# Altium footprint library sharp.PCBLIB: 5 footprints
Each footprint in its own frame and in the unit in brackets; x right, y up, seen from the top. Pads: shape width x height; smd on the part's side, far side on the other; paste and mask are expansions set on the pad; w line width, h text height; cw(c..) or ccw(c..) is an arc to the next point about the centre after c.
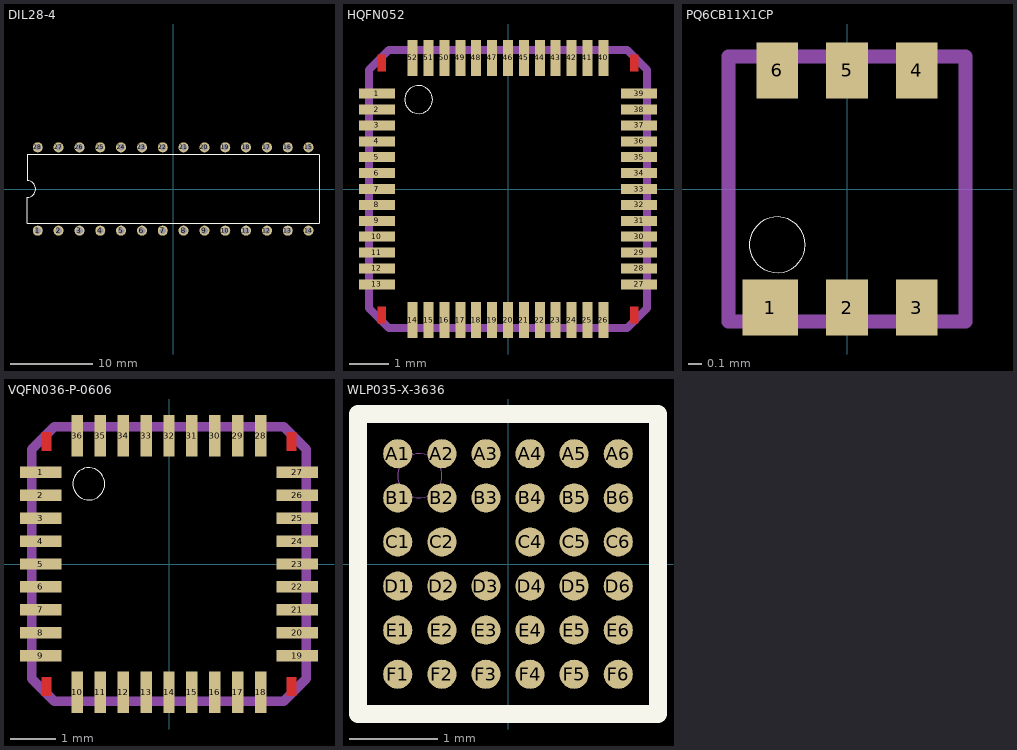
[diagram p0: the footprints below, top view; thin cyan lines are the x and y axes]

## DIL28-4 [mil]
pads (28):
  round 48 hole 32: 1(-650,-200) 2(-550,-200) 3(-450,-200) 4(-350,-200) 5(-250,-200) 6(-150,-200) 7(-50,-200) 8(50,-200) 9(150,-200) 10(250,-200) 11(350,-200) 12(450,-200) 13(550,-200) 14(650,-200) 15(650,200) 16(550,200) 17(450,200) 18(350,200) 19(250,200) 20(150,200) 21(50,200) 22(-50,200) 23(-150,200) 24(-250,200) 25(-350,200) 26(-450,200) 27(-550,200) 28(-650,200)
Top Overlay:
  lines w6: -700,-165 700,-165 700,165 -700,165 -700,40 cw(c-700,0) -700,-40 -700,-165

## HQFN052 [mil]
pads (52):
  rect 35.43x9.84 smd: 1(-129.92,94.49) 2(-129.92,78.74) 3(-129.92,62.99) 4(-129.92,47.24) 5(-129.92,31.5) 6(-129.92,15.75) 7(-129.92,0) 8(-129.92,-15.75) 9(-129.92,-31.5) 10(-129.92,-47.24) 11(-129.92,-62.99) 12(-129.92,-78.74) 13(-129.92,-94.49) 27(129.92,-94.49) 28(129.92,-78.74) 29(129.92,-62.99) 30(129.92,-47.24) 31(129.92,-31.5) 32(129.92,-15.75) 33(129.92,0) 34(129.92,15.75) 35(129.92,31.5) 36(129.92,47.24) 37(129.92,62.99) 38(129.92,78.74) 39(129.92,94.49)
  rect 9.84x35.43 smd: 14(-94.49,-129.92) 15(-78.74,-129.92) 16(-62.99,-129.92) 17(-47.24,-129.92) 18(-31.5,-129.92) 19(-15.75,-129.92) 20(0,-129.92) 21(15.75,-129.92) 22(31.5,-129.92) 23(47.24,-129.92) 24(62.99,-129.92) 25(78.74,-129.92) 26(94.49,-129.92) 40(94.49,129.92) 41(78.74,129.92) 42(62.99,129.92) 43(47.24,129.92) 44(31.5,129.92) 45(15.75,129.92) 46(0,129.92) 47(-15.75,129.92) 48(-31.5,129.92) 49(-47.24,129.92) 50(-62.99,129.92) 51(-78.74,129.92) 52(-94.49,129.92)
Top Layer:
  rectangle: -129.18,116.66 -120.82,133.35
  rectangle: -129.18,-133.34 -120.83,-116.65
  rectangle: 120.82,-133.35 129.17,-116.66
  rectangle: 120.83,116.65 129.18,133.34
Top Overlay:
  circle w0: c-88.58,88.58 r13.81
Top Paste:
  rectangle: -145.67,90.55 -114.17,98.43
  rectangle: -128.48,117.35 -121.52,132.66
  rectangle: -128.48,-132.65 -121.52,-117.34
  rectangle: 121.52,-132.66 128.48,-117.35
  rectangle: 121.52,117.34 128.48,132.65
  rectangle: -145.67,74.8 -114.17,82.68
  rectangle: -145.67,59.06 -114.17,66.93
  rectangle: -145.67,43.31 -114.17,51.18
  rectangle: -145.67,27.56 -114.17,35.43
  rectangle: -145.67,11.81 -114.17,19.69
  rectangle: -145.67,-3.94 -114.17,3.94
  rectangle: -145.67,-19.69 -114.17,-11.81
  rectangle: -145.67,-35.43 -114.17,-27.56
  rectangle: -145.67,-51.18 -114.17,-43.31
  rectangle: -145.67,-66.93 -114.17,-59.06
  rectangle: -145.67,-82.68 -114.17,-74.8
  rectangle: -145.67,-98.43 -114.17,-90.55
  region: -90.55,-145.67 -90.55,-114.17 -98.43,-114.17 -98.43,-145.67
  region: -74.8,-145.67 -74.8,-114.17 -82.68,-114.17 -82.68,-145.67
  region: -59.05,-145.67 -59.05,-114.17 -66.93,-114.17 -66.93,-145.67
  region: -43.3,-145.67 -43.3,-114.18 -51.19,-114.18 -51.19,-145.67
  region: -27.55,-145.67 -27.55,-114.18 -35.44,-114.18 -35.44,-145.67
  region: -11.81,-145.67 -11.81,-114.17 -19.69,-114.17 -19.69,-145.67
  region: 3.94,-145.67 3.94,-114.17 -3.94,-114.17 -3.94,-145.67
  region: 19.69,-145.67 19.69,-114.17 11.81,-114.17 11.81,-145.67
  region: 35.44,-145.67 35.44,-114.18 27.55,-114.18 27.55,-145.67
  region: 51.19,-145.67 51.19,-114.18 43.3,-114.18 43.3,-145.67
  region: 66.93,-145.67 66.93,-114.17 59.05,-114.17 59.05,-145.67
  region: 82.68,-145.67 82.68,-114.17 74.8,-114.17 74.8,-145.67
  region: 98.43,-145.67 98.43,-114.17 90.55,-114.17 90.55,-145.67
  region: 145.67,-90.55 114.17,-90.55 114.17,-98.43 145.67,-98.43
  region: 145.67,-74.8 114.17,-74.8 114.17,-82.68 145.67,-82.68
  region: 145.67,-59.06 114.17,-59.06 114.17,-66.93 145.67,-66.93
  region: 145.67,-43.31 114.17,-43.31 114.17,-51.18 145.67,-51.18
  region: 145.67,-27.56 114.17,-27.56 114.17,-35.43 145.67,-35.43
  region: 145.67,-11.81 114.17,-11.81 114.17,-19.69 145.67,-19.69
  region: 145.67,3.94 114.17,3.94 114.17,-3.94 145.67,-3.94
  region: 145.67,19.69 114.17,19.69 114.17,11.81 145.67,11.81
  region: 145.67,35.43 114.17,35.43 114.17,27.56 145.67,27.56
  region: 145.67,51.18 114.17,51.18 114.17,43.31 145.67,43.31
  region: 145.67,66.93 114.17,66.93 114.17,59.06 145.67,59.06
  region: 145.67,82.68 114.17,82.68 114.17,74.8 145.67,74.8
  region: 145.67,98.43 114.17,98.43 114.17,90.55 145.67,90.55
  region: 90.55,145.67 90.55,114.17 98.43,114.17 98.43,145.67
  region: 74.8,145.67 74.8,114.17 82.68,114.17 82.68,145.67
  region: 59.05,145.67 59.05,114.17 66.93,114.17 66.93,145.67
  region: 43.3,145.67 43.3,114.18 51.19,114.18 51.19,145.67
  region: 27.55,145.67 27.55,114.18 35.44,114.18 35.44,145.67
  region: 11.81,145.67 11.81,114.17 19.69,114.17 19.69,145.67
  region: -3.94,145.67 -3.94,114.17 3.94,114.17 3.94,145.67
  region: -19.69,145.67 -19.69,114.17 -11.81,114.17 -11.81,145.67
  region: -35.44,145.67 -35.44,114.18 -27.55,114.18 -27.55,145.67
  region: -51.19,145.67 -51.19,114.18 -43.3,114.18 -43.3,145.67
  region: -66.93,145.67 -66.93,114.17 -59.05,114.17 -59.05,145.67
  region: -82.68,145.67 -82.68,114.17 -74.8,114.17 -74.8,145.67
  region: -98.43,145.67 -98.43,114.17 -90.55,114.17 -90.55,145.67
Top Solder:
  rectangle: -129.87,115.95 -120.13,134.05
  rectangle: -148.62,88.58 -111.22,100.39
  rectangle: -129.87,-134.04 -120.13,-115.95
  rectangle: 120.13,-134.04 129.87,-115.95
  rectangle: 120.13,115.95 129.87,134.04
  rectangle: -148.62,72.83 -111.22,84.65
  rectangle: -148.62,57.09 -111.22,68.9
  rectangle: -148.62,41.34 -111.22,53.15
  rectangle: -148.62,25.59 -111.22,37.4
  rectangle: -148.62,9.84 -111.22,21.65
  rectangle: -148.62,-5.91 -111.22,5.91
  rectangle: -148.62,-21.65 -111.22,-9.84
  rectangle: -148.62,-37.4 -111.22,-25.59
  rectangle: -148.62,-53.15 -111.22,-41.34
  rectangle: -148.62,-68.9 -111.22,-57.09
  rectangle: -148.62,-84.65 -111.22,-72.83
  rectangle: -148.62,-100.39 -111.22,-88.58
  region: -88.59,-148.62 -88.59,-111.23 -100.4,-111.23 -100.4,-148.62
  region: -72.83,-148.62 -72.83,-111.23 -84.65,-111.23 -84.65,-148.62
  region: -57.08,-148.62 -57.08,-111.23 -68.9,-111.23 -68.9,-148.62
  region: -41.33,-148.62 -41.33,-111.23 -53.15,-111.23 -53.15,-148.62
  region: -25.59,-148.62 -25.59,-111.23 -37.41,-111.23 -37.41,-148.62
  region: -9.84,-148.62 -9.84,-111.23 -21.66,-111.23 -21.66,-148.62
  region: 5.91,-148.62 5.91,-111.23 -5.91,-111.23 -5.91,-148.62
  region: 21.66,-148.62 21.66,-111.23 9.84,-111.23 9.84,-148.62
  region: 37.41,-148.62 37.41,-111.23 25.59,-111.23 25.59,-148.62
  region: 53.15,-148.62 53.15,-111.23 41.33,-111.23 41.33,-148.62
  region: 68.9,-148.62 68.9,-111.23 57.08,-111.23 57.08,-148.62
  region: 84.65,-148.62 84.65,-111.23 72.83,-111.23 72.83,-148.62
  region: 100.4,-148.62 100.4,-111.23 88.59,-111.23 88.59,-148.62
  region: 148.62,-88.58 111.22,-88.58 111.22,-100.39 148.62,-100.39
  region: 148.62,-72.83 111.22,-72.83 111.22,-84.65 148.62,-84.65
  region: 148.62,-57.09 111.22,-57.09 111.22,-68.9 148.62,-68.9
  region: 148.62,-41.34 111.22,-41.34 111.22,-53.15 148.62,-53.15
  region: 148.62,-25.59 111.22,-25.59 111.22,-37.4 148.62,-37.4
  region: 148.62,-9.84 111.22,-9.84 111.22,-21.65 148.62,-21.65
  region: 148.62,5.91 111.22,5.91 111.22,-5.91 148.62,-5.91
  region: 148.62,21.65 111.22,21.65 111.22,9.84 148.62,9.84
  region: 148.62,37.4 111.22,37.4 111.22,25.59 148.62,25.59
  region: 148.62,53.15 111.22,53.15 111.22,41.34 148.62,41.34
  region: 148.62,68.9 111.22,68.9 111.22,57.09 148.62,57.09
  region: 148.62,84.65 111.22,84.65 111.22,72.83 148.62,72.83
  region: 148.62,100.39 111.22,100.39 111.22,88.58 148.62,88.58
  region: 88.59,148.62 88.59,111.23 100.4,111.23 100.4,148.62
  region: 72.83,148.62 72.83,111.23 84.65,111.23 84.65,148.62
  region: 57.08,148.62 57.08,111.23 68.9,111.23 68.9,148.62
  region: 41.33,148.62 41.33,111.23 53.15,111.23 53.15,148.62
  region: 25.59,148.62 25.59,111.23 37.41,111.23 37.41,148.62
  region: 9.84,148.62 9.84,111.23 21.66,111.23 21.66,148.62
  region: -5.91,148.62 -5.91,111.23 5.91,111.23 5.91,148.62
  region: -21.66,148.62 -21.66,111.23 -9.84,111.23 -9.84,148.62
  region: -37.41,148.62 -37.41,111.23 -25.59,111.23 -25.59,148.62
  region: -53.15,148.62 -53.15,111.23 -41.33,111.23 -41.33,148.62
  region: -68.9,148.62 -68.9,111.23 -57.08,111.23 -57.08,148.62
  region: -84.65,148.62 -84.65,111.23 -72.83,111.23 -72.83,148.62
  region: -100.4,148.62 -100.4,111.23 -88.59,111.23 -88.59,148.62
Mechanical 16:
  rectangle: -133.86,90.55 -118.11,98.43
  rectangle: -133.86,74.8 -118.11,82.68
  rectangle: -133.86,59.06 -118.11,66.93
  rectangle: -133.86,43.31 -118.11,51.18
  rectangle: -133.86,27.56 -118.11,35.43
  rectangle: -133.86,11.81 -118.11,19.69
  rectangle: -133.86,-3.94 -118.11,3.94
  rectangle: -133.86,-19.69 -118.11,-11.81
  rectangle: -133.86,-35.43 -118.11,-27.56
  rectangle: -133.86,-51.18 -118.11,-43.31
  rectangle: -133.86,-66.93 -118.11,-59.06
  rectangle: -133.86,-82.68 -118.11,-74.8
  rectangle: -133.86,-98.43 -118.11,-90.55
  region: -90.55,-133.86 -90.55,-118.11 -98.42,-118.11 -98.42,-133.86
  region: -74.81,-133.85 -74.81,-118.11 -82.68,-118.11 -82.68,-133.85
  region: -59.06,-133.86 -59.06,-118.11 -66.93,-118.11 -66.93,-133.86
  region: -43.31,-133.86 -43.31,-118.11 -51.18,-118.11 -51.18,-133.86
  region: -27.56,-133.86 -27.56,-118.11 -35.43,-118.11 -35.43,-133.86
  region: -11.81,-133.86 -11.81,-118.11 -19.68,-118.11 -19.68,-133.86
  region: 3.93,-133.85 3.93,-118.11 -3.93,-118.11 -3.93,-133.85
  region: 19.68,-133.86 19.68,-118.11 11.81,-118.11 11.81,-133.86
  region: 35.43,-133.86 35.43,-118.11 27.56,-118.11 27.56,-133.86
  region: 51.18,-133.86 51.18,-118.11 43.31,-118.11 43.31,-133.86
  region: 66.93,-133.86 66.93,-118.11 59.06,-118.11 59.06,-133.86
  region: 82.68,-133.85 82.68,-118.11 74.81,-118.11 74.81,-133.85
  region: 98.42,-133.86 98.42,-118.11 90.55,-118.11 90.55,-133.86
  region: 133.86,-90.55 118.11,-90.55 118.11,-98.43 133.86,-98.43
  region: 133.86,-74.8 118.11,-74.8 118.11,-82.68 133.86,-82.68
  region: 133.86,-59.06 118.11,-59.06 118.11,-66.93 133.86,-66.93
  region: 133.86,-43.31 118.11,-43.31 118.11,-51.18 133.86,-51.18
  region: 133.86,-27.56 118.11,-27.56 118.11,-35.43 133.86,-35.43
  region: 133.86,-11.81 118.11,-11.81 118.11,-19.69 133.86,-19.69
  region: 133.86,3.94 118.11,3.94 118.11,-3.94 133.86,-3.94
  region: 133.86,19.69 118.11,19.69 118.11,11.81 133.86,11.81
  region: 133.86,35.43 118.11,35.43 118.11,27.56 133.86,27.56
  region: 133.86,51.18 118.11,51.18 118.11,43.31 133.86,43.31
  region: 133.86,66.93 118.11,66.93 118.11,59.06 133.86,59.06
  region: 133.86,82.68 118.11,82.68 118.11,74.8 133.86,74.8
  region: 133.86,98.43 118.11,98.43 118.11,90.55 133.86,90.55
  region: 90.55,133.86 90.55,118.11 98.42,118.11 98.42,133.86
  region: 74.81,133.85 74.81,118.11 82.68,118.11 82.68,133.85
  region: 59.06,133.86 59.06,118.11 66.93,118.11 66.93,133.86
  region: 43.31,133.86 43.31,118.11 51.18,118.11 51.18,133.86
  region: 27.56,133.86 27.56,118.11 35.43,118.11 35.43,133.86
  region: 11.81,133.86 11.81,118.11 19.68,118.11 19.68,133.86
  region: -3.93,133.85 -3.93,118.11 3.93,118.11 3.93,133.85
  region: -19.68,133.86 -19.68,118.11 -11.81,118.11 -11.81,133.86
  region: -35.43,133.86 -35.43,118.11 -27.56,118.11 -27.56,133.86
  region: -51.18,133.86 -51.18,118.11 -43.31,118.11 -43.31,133.86
  region: -66.93,133.86 -66.93,118.11 -59.06,118.11 -59.06,133.86
  region: -82.68,133.85 -82.68,118.11 -74.81,118.11 -74.81,133.85
  region: -98.42,133.86 -98.42,118.11 -90.55,118.11 -90.55,133.86
  lines w8: -137.8,-118.11 -118.11,-137.8 118.11,-137.8 137.8,-118.11 137.8,118.11 118.11,137.8 -118.11,137.8 -137.8,118.11 -137.8,-118.11

## PQ6CB11X1CP [mil]
pads (6):
  rect 15.75x15.75 smd: 1(-21.65,-33.46)
  rect 11.81x15.75 smd: 2(0,-33.46) 3(19.69,-33.46) 4(19.69,33.46) 5(0,33.46) 6(-19.69,33.46)
Top Overlay:
  circle w0: c-19.69,-15.75 r7.87
Top Paste:
  rectangle: -28.54,-40.35 -14.76,-26.57
  rectangle: -4.92,-40.35 4.92,-26.57
  rectangle: 14.76,-40.35 24.61,-26.57
  rectangle: 14.76,26.57 24.61,40.35
  rectangle: -4.92,26.57 4.92,40.35
  rectangle: -24.61,26.57 -14.76,40.35
Top Solder:
  rectangle: -30.51,-42.32 -12.8,-24.61
  rectangle: -6.89,-42.32 6.89,-24.61
  rectangle: 12.8,-42.32 26.57,-24.61
  rectangle: 12.8,24.61 26.57,42.32
  rectangle: -6.89,24.61 6.89,42.32
  rectangle: -26.57,24.61 -12.8,42.32
Mechanical 16:
  rectangle: -27.56,-35.43 -15.75,-27.56
  rectangle: -3.94,-35.43 3.94,-27.56
  rectangle: -23.62,27.56 -15.75,35.43
  rectangle: -3.94,27.56 3.94,35.43
  rectangle: 15.75,27.56 23.62,35.43
  rectangle: 15.75,-35.43 23.62,-27.56
  lines w4: -33.46,-37.4 33.46,-37.4 33.46,37.4 -33.46,37.4 -33.46,-37.4

## VQFN036-P-0606 [mm]
pads (36):
  rect 0.9x0.25 smd: 1(-2.8,2) 2(-2.8,1.5) 3(-2.8,1) 4(-2.8,0.5) 5(-2.8,0) 6(-2.8,-0.5) 7(-2.8,-1) 8(-2.8,-1.5) 9(-2.8,-2) 19(2.8,-2) 20(2.8,-1.5) 21(2.8,-1) 22(2.8,-0.5) 23(2.8,0) 24(2.8,0.5) 25(2.8,1) 26(2.8,1.5) 27(2.8,2)
  rect 0.25x0.9 smd: 10(-2,-2.8) 11(-1.5,-2.8) 12(-1,-2.8) 13(-0.5,-2.8) 14(0,-2.8) 15(0.5,-2.8) 16(1,-2.8) 17(1.5,-2.8) 18(2,-2.8) 28(2,2.8) 29(1.5,2.8) 30(1,2.8) 31(0.5,2.8) 32(0,2.8) 33(-0.5,2.8) 34(-1,2.8) 35(-1.5,2.8) 36(-2,2.8)
Top Layer:
  rectangle: -2.781,2.463 -2.569,2.887
  rectangle: -2.781,-2.887 -2.569,-2.463
  rectangle: 2.569,-2.887 2.781,-2.463
  rectangle: 2.569,2.463 2.781,2.887
Top Overlay:
  circle w0: c-1.75,1.75 r0.351
Top Paste:
  rectangle: -3.2,1.9 -2.4,2.1
  rectangle: -3.2,1.4 -2.4,1.6
  rectangle: -3.2,0.9 -2.4,1.1
  rectangle: -3.2,0.4 -2.4,0.6
  rectangle: -3.2,-0.1 -2.4,0.1
  rectangle: -3.2,-0.6 -2.4,-0.4
  rectangle: -3.2,-1.1 -2.4,-0.9
  rectangle: -3.2,-1.6 -2.4,-1.4
  rectangle: -3.2,-2.1 -2.4,-1.9
  rectangle: -2.763,2.481 -2.586,2.87
  region: -1.9,-3.2 -1.9,-2.4 -2.1,-2.4 -2.1,-3.2
  region: -1.4,-3.2 -1.4,-2.4 -1.6,-2.4 -1.6,-3.2
  region: -0.9,-3.2 -0.9,-2.4 -1.1,-2.4 -1.1,-3.2
  region: -0.4,-3.2 -0.4,-2.4 -0.6,-2.4 -0.6,-3.2
  region: 0.1,-3.2 0.1,-2.4 -0.1,-2.4 -0.1,-3.2
  region: 0.6,-3.2 0.6,-2.4 0.4,-2.4 0.4,-3.2
  region: 1.1,-3.2 1.1,-2.4 0.9,-2.4 0.9,-3.2
  region: 1.6,-3.2 1.6,-2.4 1.4,-2.4 1.4,-3.2
  region: 2.1,-3.2 2.1,-2.4 1.9,-2.4 1.9,-3.2
  rectangle: -2.764,-2.869 -2.587,-2.48
  region: 3.2,-1.9 2.4,-1.9 2.4,-2.1 3.2,-2.1
  region: 3.2,-1.4 2.4,-1.4 2.4,-1.6 3.2,-1.6
  region: 3.2,-0.9 2.4,-0.9 2.4,-1.1 3.2,-1.1
  region: 3.2,-0.4 2.4,-0.4 2.4,-0.6 3.2,-0.6
  region: 3.2,0.1 2.4,0.1 2.4,-0.1 3.2,-0.1
  region: 3.2,0.6 2.4,0.6 2.4,0.4 3.2,0.4
  region: 3.2,1.1 2.4,1.1 2.4,0.9 3.2,0.9
  region: 3.2,1.6 2.4,1.6 2.4,1.4 3.2,1.4
  region: 3.2,2.1 2.4,2.1 2.4,1.9 3.2,1.9
  rectangle: 2.586,-2.87 2.763,-2.481
  region: 1.9,3.2 1.9,2.4 2.1,2.4 2.1,3.2
  region: 1.4,3.2 1.4,2.4 1.6,2.4 1.6,3.2
  region: 0.9,3.2 0.9,2.4 1.1,2.4 1.1,3.2
  region: 0.4,3.2 0.4,2.4 0.6,2.4 0.6,3.2
  region: -0.1,3.2 -0.1,2.4 0.1,2.4 0.1,3.2
  region: -0.6,3.2 -0.6,2.4 -0.4,2.4 -0.4,3.2
  region: -1.1,3.2 -1.1,2.4 -0.9,2.4 -0.9,3.2
  region: -1.6,3.2 -1.6,2.4 -1.4,2.4 -1.4,3.2
  region: -2.1,3.2 -2.1,2.4 -1.9,2.4 -1.9,3.2
  rectangle: 2.587,2.48 2.764,2.869
Top Solder:
  rectangle: -2.799,2.445 -2.551,2.905
  rectangle: -3.275,1.85 -2.325,2.15
  rectangle: -3.275,1.35 -2.325,1.65
  rectangle: -3.275,0.85 -2.325,1.15
  rectangle: -3.275,0.35 -2.325,0.65
  rectangle: -3.275,-0.15 -2.325,0.15
  rectangle: -3.275,-0.65 -2.325,-0.35
  rectangle: -3.275,-1.15 -2.325,-0.85
  rectangle: -3.275,-1.65 -2.325,-1.35
  rectangle: -3.275,-2.15 -2.325,-1.85
  rectangle: -2.799,-2.905 -2.551,-2.445
  region: -1.85,-3.275 -1.85,-2.325 -2.15,-2.325 -2.15,-3.275
  region: -1.35,-3.275 -1.35,-2.325 -1.65,-2.325 -1.65,-3.275
  region: -0.85,-3.275 -0.85,-2.325 -1.15,-2.325 -1.15,-3.275
  region: -0.35,-3.275 -0.35,-2.325 -0.65,-2.325 -0.65,-3.275
  region: 0.15,-3.275 0.15,-2.325 -0.15,-2.325 -0.15,-3.275
  region: 0.65,-3.275 0.65,-2.325 0.35,-2.325 0.35,-3.275
  region: 1.15,-3.275 1.15,-2.325 0.85,-2.325 0.85,-3.275
  region: 1.65,-3.275 1.65,-2.325 1.35,-2.325 1.35,-3.275
  region: 2.15,-3.275 2.15,-2.325 1.85,-2.325 1.85,-3.275
  rectangle: 2.551,-2.905 2.799,-2.445
  region: 3.275,-1.85 2.325,-1.85 2.325,-2.15 3.275,-2.15
  region: 3.275,-1.35 2.325,-1.35 2.325,-1.65 3.275,-1.65
  region: 3.275,-0.85 2.325,-0.85 2.325,-1.15 3.275,-1.15
  region: 3.275,-0.35 2.325,-0.35 2.325,-0.65 3.275,-0.65
  region: 3.275,0.15 2.325,0.15 2.325,-0.15 3.275,-0.15
  region: 3.275,0.65 2.325,0.65 2.325,0.35 3.275,0.35
  region: 3.275,1.15 2.325,1.15 2.325,0.85 3.275,0.85
  region: 3.275,1.65 2.325,1.65 2.325,1.35 3.275,1.35
  region: 3.275,2.15 2.325,2.15 2.325,1.85 3.275,1.85
  rectangle: 2.551,2.445 2.799,2.905
  region: 1.85,3.275 1.85,2.325 2.15,2.325 2.15,3.275
  region: 1.35,3.275 1.35,2.325 1.65,2.325 1.65,3.275
  region: 0.85,3.275 0.85,2.325 1.15,2.325 1.15,3.275
  region: 0.35,3.275 0.35,2.325 0.65,2.325 0.65,3.275
  region: -0.15,3.275 -0.15,2.325 0.15,2.325 0.15,3.275
  region: -0.65,3.275 -0.65,2.325 -0.35,2.325 -0.35,3.275
  region: -1.15,3.275 -1.15,2.325 -0.85,2.325 -0.85,3.275
  region: -1.65,3.275 -1.65,2.325 -1.35,2.325 -1.35,3.275
  region: -2.15,3.275 -2.15,2.325 -1.85,2.325 -1.85,3.275
Mechanical 16:
  rectangle: -2.9,1.9 -2.5,2.1
  rectangle: -2.9,1.4 -2.5,1.6
  rectangle: -2.9,0.9 -2.5,1.1
  rectangle: -2.9,0.4 -2.5,0.6
  rectangle: -2.9,-0.1 -2.5,0.1
  rectangle: -2.9,-0.6 -2.5,-0.4
  rectangle: -2.9,-1.1 -2.5,-0.9
  rectangle: -2.9,-1.6 -2.5,-1.4
  rectangle: -2.9,-2.1 -2.5,-1.9
  region: -1.9,-2.9 -1.9,-2.5 -2.1,-2.5 -2.1,-2.9
  region: -1.4,-2.9 -1.4,-2.5 -1.6,-2.5 -1.6,-2.9
  region: -0.9,-2.9 -0.9,-2.5 -1.1,-2.5 -1.1,-2.9
  region: -0.4,-2.9 -0.4,-2.5 -0.6,-2.5 -0.6,-2.9
  region: 0.1,-2.9 0.1,-2.5 -0.1,-2.5 -0.1,-2.9
  region: 0.6,-2.9 0.6,-2.5 0.4,-2.5 0.4,-2.9
  region: 1.1,-2.9 1.1,-2.5 0.9,-2.5 0.9,-2.9
  region: 1.6,-2.9 1.6,-2.5 1.4,-2.5 1.4,-2.9
  region: 2.1,-2.9 2.1,-2.5 1.9,-2.5 1.9,-2.9
  region: 2.9,-1.9 2.5,-1.9 2.5,-2.1 2.9,-2.1
  region: 2.9,-1.4 2.5,-1.4 2.5,-1.6 2.9,-1.6
  region: 2.9,-0.9 2.5,-0.9 2.5,-1.1 2.9,-1.1
  region: 2.9,-0.4 2.5,-0.4 2.5,-0.6 2.9,-0.6
  region: 2.9,0.1 2.5,0.1 2.5,-0.1 2.9,-0.1
  region: 2.9,0.6 2.5,0.6 2.5,0.4 2.9,0.4
  region: 2.9,1.1 2.5,1.1 2.5,0.9 2.9,0.9
  region: 2.9,1.6 2.5,1.6 2.5,1.4 2.9,1.4
  region: 2.9,2.1 2.5,2.1 2.5,1.9 2.9,1.9
  region: 1.9,2.9 1.9,2.5 2.1,2.5 2.1,2.9
  region: 1.4,2.9 1.4,2.5 1.6,2.5 1.6,2.9
  region: 0.9,2.9 0.9,2.5 1.1,2.5 1.1,2.9
  region: 0.4,2.9 0.4,2.5 0.6,2.5 0.6,2.9
  region: -0.1,2.9 -0.1,2.5 0.1,2.5 0.1,2.9
  region: -0.6,2.9 -0.6,2.5 -0.4,2.5 -0.4,2.9
  region: -1.1,2.9 -1.1,2.5 -0.9,2.5 -0.9,2.9
  region: -1.6,2.9 -1.6,2.5 -1.4,2.5 -1.4,2.9
  region: -2.1,2.9 -2.1,2.5 -1.9,2.5 -1.9,2.9
  lines w0.203: -3,-2.5 -2.5,-3 2.5,-3 3,-2.5 3,2.5 2.5,3 -2.5,3 -3,2.5 -3,-2.5

## WLP035-X-3636 [mil]
pads (35):
  rrect100% 12.99x12.99 smd: A1(-49.21,49.21) A2(-29.53,49.21) A3(-9.84,49.21) A4(9.84,49.21) A5(29.53,49.21) A6(49.21,49.21) B1(-49.21,29.53) B2(-29.53,29.53) B3(-9.84,29.53) B4(9.84,29.53) B5(29.53,29.53) B6(49.21,29.53) C1(-49.21,9.84) C2(-29.53,9.84) C4(9.84,9.84) C5(29.53,9.84) C6(49.21,9.84) D1(-49.21,-9.84) D2(-29.53,-9.84) D3(-9.84,-9.84) D4(9.84,-9.84) D5(29.53,-9.84) D6(49.21,-9.84) E1(-49.21,-29.53) E2(-29.53,-29.53) E3(-9.84,-29.53) E4(9.84,-29.53) E5(29.53,-29.53) E6(49.21,-29.53) F1(-49.21,-49.21) F2(-29.53,-49.21) F3(-9.84,-49.21) F4(9.84,-49.21) F5(29.53,-49.21) F6(49.21,-49.21)
Top Overlay:
  lines w8: -66.93,-66.93 66.93,-66.93 66.93,66.93 -66.93,66.93 -66.93,-66.93
Top Solder:
  circle w0: c-49.21,49.21 r7.87
  circle w0: c-49.21,29.53 r7.87
  circle w0: c-49.21,9.84 r7.87
  circle w0: c-49.21,-9.84 r7.87
  circle w0: c-49.21,-29.53 r7.87
  circle w0: c-49.21,-49.21 r7.87
  circle w0: c-29.53,49.21 r7.87
  circle w0: c-29.53,29.53 r7.87
  circle w0: c-29.53,9.84 r7.87
  circle w0: c-29.53,-9.84 r7.87
  circle w0: c-29.53,-29.53 r7.87
  circle w0: c-29.53,-49.21 r7.87
  circle w0: c-9.84,49.21 r7.87
  circle w0: c-9.84,29.53 r7.87
  circle w0: c-9.84,-9.84 r7.87
  circle w0: c-9.84,-29.53 r7.87
  circle w0: c-9.84,-49.21 r7.87
  circle w0: c9.84,49.21 r7.87
  circle w0: c9.84,29.53 r7.87
  circle w0: c9.84,9.84 r7.87
  circle w0: c9.84,-9.84 r7.87
  circle w0: c9.84,-29.53 r7.87
  circle w0: c9.84,-49.21 r7.87
  circle w0: c29.53,49.21 r7.87
  circle w0: c29.53,29.53 r7.87
  circle w0: c29.53,9.84 r7.87
  circle w0: c29.53,-9.84 r7.87
  circle w0: c29.53,-29.53 r7.87
  circle w0: c29.53,-49.21 r7.87
  circle w0: c49.21,49.21 r7.87
  circle w0: c49.21,29.53 r7.87
  circle w0: c49.21,9.84 r7.87
  circle w0: c49.21,-9.84 r7.87
  circle w0: c49.21,-29.53 r7.87
  circle w0: c49.21,-49.21 r7.87
Mechanical 16:
  circle w0: c-39.37,39.37 r9.84